# EAGLE library part XB24CZ7UIS-004 (library circuit_tree)
IC
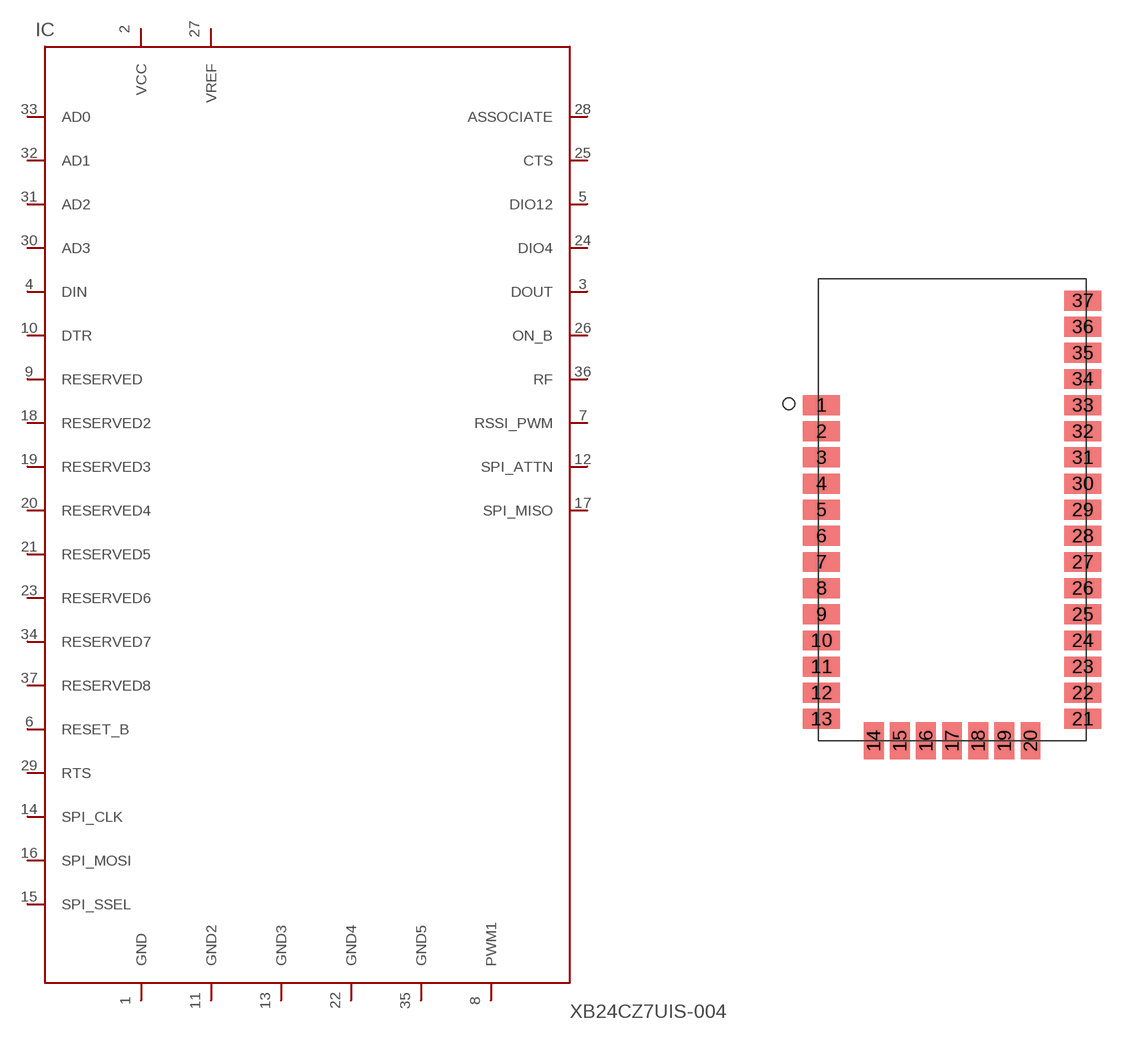
[diagram p5: symbol with the pads of XB24CZ7UIS-004; footprint XB24CZ7UIS-004]

Designator prefix IC

## XB24CZ7UIS-004  [XB24CZ7UIS-004]
1  GND  pas
2  VCC  pas
3  DOUT  pas
4  DIN  pas
5  DIO12  pas
6  RESET_B  pas
7  RSSI_PWM  pas
8  PWM1  pas
9  RESERVED  pas
10  DTR  pas
11  GND2  pas
12  SPI_ATTN  pas
13  GND3  pas
14  SPI_CLK  pas
15  SPI_SSEL  pas
16  SPI_MOSI  pas
17  SPI_MISO  pas
18  RESERVED2  pas
19  RESERVED3  pas
20  RESERVED4  pas
21  RESERVED5  pas
22  GND4  pas
23  RESERVED6  pas
24  DIO4  pas
25  CTS  pas
26  ON_B  pas
27  VREF  pas
28  ASSOCIATE  pas
29  RTS  pas
30  AD3  pas
31  AD2  pas
32  AD1  pas
33  AD0  pas
34  RESERVED7  pas
35  GND5  pas
36  RF  pas
37  RESERVED8  pas

## Footprint XB24CZ7UIS-004 (pad centres in mm)
smd 2.84 x 1.52: 1 -10,6; 2 -10,4; 3 -10,2; 4 -10,0; 5 -10,-2; 6 -10,-4; 7 -10,-6; 8 -10,-8; 9 -10,-10; 10 -10,-12; 11 -10,-14; 12 -10,-16; 13 -10,-18; 21 10,-18; 22 10,-16; 23 10,-14; 24 10,-12; 25 10,-10; 26 10,-8; 27 10,-6; 28 10,-4; 29 10,-2; 30 10,0; 31 10,2; 32 10,4; 33 10,6; 34 10,8; 35 10,10; 36 10,12; 37 10,14
smd 1.52 x 2.84: 14 -6,-19.68; 15 -4,-19.68; 16 -2,-19.68; 17 0,-19.68; 18 2,-19.68; 19 4,-19.68; 20 6,-19.68